# EAGLE library part THS4130 (library ELE3000)
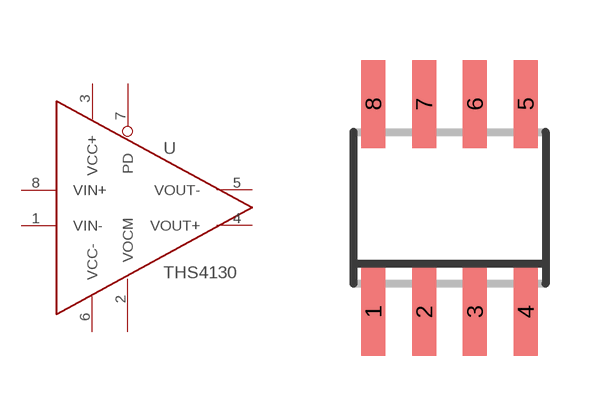
[diagram p8: symbol with the pads of SO-08; footprint SO-08]

Designator prefix -

## THS4130IDR  [SO-08]
1  VIN-
2  VOCM
3  VCC+
4  VOUT+
5  VOUT-
6  VCC-
7  PD
8  VIN+

## Footprint SO-08 (pad centres in mm)
D (R-PDSO-G8) Plastic Small Outline Package Source: http://focus.ti.com/lit/ds/symlink/sn65als176.pdf
smd 0.6 x 2.2: 1 -1.905,-2.6; 2 -0.635,-2.6; 3 0.635,-2.6; 4 1.905,-2.6; 5 1.905,2.6; 6 0.635,2.6; 7 -0.635,2.6; 8 -1.905,2.6